# Altium schematic symbol library 1056.SchLib: 1 symbol
Pins are listed as number, name and electrical type; pins without a type are passive.

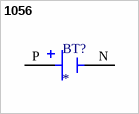
[diagram p0: symbol 1056]

## 1056
designator BT?
MP: 1056; Value: *; Package: None; Price: None; Availability: Unavailable
footprint BAT_1056
pins: N NEG, P POS